# EAGLE library part 1-2199230-4 (library 1-2199230-4)
M.2 NGFF, M.2 Connectors, Height 4.2 mm [.165 in], Keying Code M, Gold, Board-to-Board, 67 Position, .02 in [.5 mm] Centerline, Printed Circuit Board Source: Datasheet <https://www.te.com/commerce/DocumentDelivery/DDEController?Action=showdoc&DocId=Customer Drawing2199230B3pdfEnglishENG_CD_2199230_B3.pdf1-2199230-4>
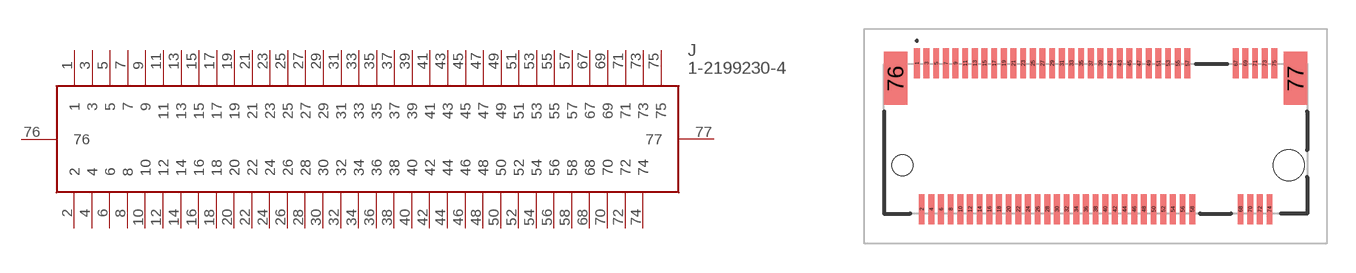
[diagram p0: symbol with the pads of 121992304; footprint 121992304]

Designator prefix J

## 1-2199230-4 (Description: M.2 NGFF, M.2 Connectors, Height 4.2 mm [.165 in], Keying Code M, Gold, Board-to-Board, 67 Position, .02 in [.5 mm] Centerline, Printed Circuit Board; Height: mm; Manufacturer_Name: TE Connectivity; Manufacturer_Part_Number: 1-2199230-4; Mouser_Part_Number: 571-1-2199230-4; Mouser_Price-Stock: https://www.mouser.co.uk/ProductDetail/TE-Connectivity/1-2199230-4?qs=gAfoL%252BRo%2FrJHWNmRjPOT7g%3D%3D)  [121992304]
1  1
2  2
3  3
4  4
5  5
6  6
7  7
8  8
9  9
10  10
11  11
12  12
13  13
14  14
15  15
16  16
17  17
18  18
19  19
20  20
21  21
22  22
23  23
24  24
25  25
26  26
27  27
28  28
29  29
30  30
31  31
32  32
33  33
34  34
35  35
36  36
37  37
38  38
39  39
40  40
41  41
42  42
43  43
44  44
45  45
46  46
47  47
48  48
49  49
50  50
51  51
52  52
53  53
54  54
55  55
56  56
57  57
58  58
67  67
68  68
69  69
70  70
71  71
72  72
73  73
74  74
75  75
76  76
77  77

## Footprint 121992304 (pad centres in mm)
1-2199230-4-3
smd 0.3 x 1.55: 1 -9.25,3.9; 2 -9,-3.65; 3 -8.75,3.9; 4 -8.5,-3.65; 5 -8.25,3.9; 6 -8,-3.65; 7 -7.75,3.9; 8 -7.5,-3.65; 9 -7.25,3.9; 10 -7,-3.65; 11 -6.75,3.9; 12 -6.5,-3.65; 13 -6.25,3.9; 14 -6,-3.65; 15 -5.75,3.9; 16 -5.5,-3.65; 17 -5.25,3.9; 18 -5,-3.65; 19 -4.75,3.9; 20 -4.5,-3.65; 21 -4.25,3.9; 22 -4,-3.65; 23 -3.75,3.9; 24 -3.5,-3.65; 25 -3.25,3.9; 26 -3,-3.65; 27 -2.75,3.9; 28 -2.5,-3.65; 29 -2.25,3.9; 30 -2,-3.65; 31 -1.75,3.9; 32 -1.5,-3.65; 33 -1.25,3.9; 34 -1,-3.65; 35 -0.75,3.9; 36 -0.5,-3.65; 37 -0.25,3.9; 38 0,-3.65; 39 0.25,3.9; 40 0.5,-3.65; 41 0.75,3.9; 42 1,-3.65; 43 1.25,3.9; 44 1.5,-3.65; 45 1.75,3.9; 46 2,-3.65; 47 2.25,3.9; 48 2.5,-3.65; 49 2.75,3.9; 50 3,-3.65; 51 3.25,3.9; 52 3.5,-3.65; 53 3.75,3.9; 54 4,-3.65; 55 4.25,3.9; 56 4.5,-3.65; 57 4.75,3.9; 58 5,-3.65; 67 7.25,3.9; 68 7.5,-3.65; 69 7.75,3.9; 70 8,-3.65; 71 8.25,3.9; 72 8.5,-3.65; 73 8.75,3.9; 74 9,-3.65; 75 9.25,3.9
smd 1.2 x 2.75: 76 -10.35,3.125; 77 10.35,3.125
hole 1.1 at -10,-1.375
hole 1.6 at 10,-1.375